# Altium footprint library Capasitors.PcbLib: 66 footprints (part 5 of 5)
Each footprint in its own frame and in the unit in brackets; x right, y up, seen from the top. Pads: shape width x height; smd on the part's side, far side on the other; paste and mask are expansions set on the pad; w line width, h text height; cw(c..) or ccw(c..) is an arc to the next point about the centre after c.
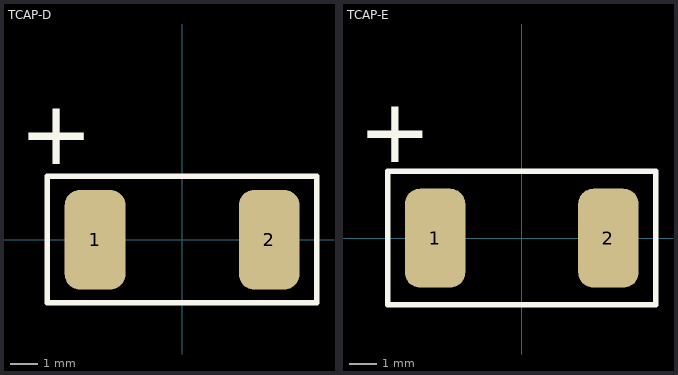
[diagram p4: the footprints below, top view; thin cyan lines are the x and y axes]

## TCAP-D [mm] "К53-68; К53-46 // Масса 0,5 г// UMI"
height 3.2
pads (2):
  rrect50% 2.2x3.6 smd: 1(-3.15,0) 2(3.15,0)
Top Overlay:
  lines w0.2: -4.875,-2.286 -4.875,-1.143 -4.875,1.143 -4.875,2.286 4.875,2.286 4.875,-2.286 -4.875,-2.286
  text "+" at -5.9,1.95 h4
3D body "TANTAL_D.STEP": height 2.81, standoff 0, extent -3.647,-2.15 3.647,2.15

## TCAP-E [mm] "К53-68; К53-46 // Масса 0,6 г// UMI"
height 4.4
pads (2):
  rrect50% 2.2x3.6 smd: 1(-3.15,0) 2(3.15,0)
Top Overlay:
  lines w0.2: -4.875,-2.425 -4.875,2.425 4.875,2.425 4.875,-2.425 -4.875,-2.425
  text "+" at -5.95,2 h4
3D body "TANTAL_E.STEP": height 4.11, standoff 0, extent -3.647,-2.15 3.647,2.15